# EAGLE library part TYPE_C_CON_24PIN_SM (library vikc-connector)
USB type-C Connector SMD created by Aditya
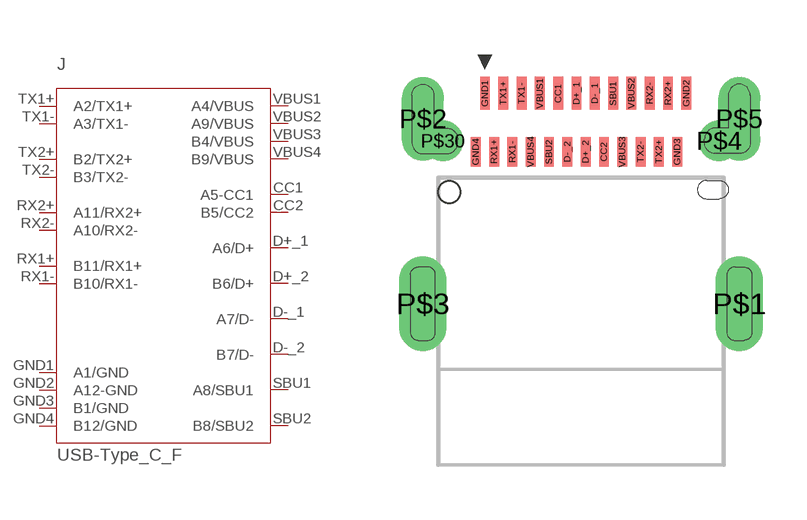
[diagram p13: symbol with the pads of USB-TYPE-C-PTH-PAD; footprint USB-TYPE-C-PTH-PAD]

Designator prefix J

## TYPE_C_CON_24PIN_SM  [USB-TYPE-C-PTH-PAD]
CC1  A5-CC1
CC2  B5/CC2
D+_1  A6/D+
D+_2  B6/D+
D-_1  A7/D-
D-_2  B7/D-
GND1  A1/GND
GND2  A12-GND
GND3  B1/GND
GND4  B12/GND
RX1+  B11/RX1+
RX1-  B10/RX1-
RX2+  A11/RX2+
RX2-  A10/RX2-
SBU1  A8/SBU1
SBU2  B8/SBU2
TX1+  A2/TX1+
TX1-  A3/TX1-
TX2+  B2/TX2+
TX2-  B3/TX2-
VBUS1  A4/VBUS
VBUS2  A9/VBUS
VBUS3  B4/VBUS
VBUS4  B9/VBUS

## Footprint USB-TYPE-C-PTH-PAD (pad centres in mm)
smd 0.27 x 0.9: CC1 -0.625,5.75; D+_1 -0.125,5.75; D-_1 0.375,5.75; GND1 -2.625,5.75; GND2 2.875,5.75; RX2+ 2.375,5.75; RX2- 1.875,5.75; SBU1 0.875,5.75; TX1+ -2.125,5.75; TX1- -1.625,5.75; VBUS1 -1.125,5.75; VBUS2 1.375,5.75
smd 0.27 x 0.8: CC2 0.625,4.15; D+_2 0.125,4.15; D-_2 -0.375,4.15; GND3 2.625,4.15; GND4 -2.875,4.15; RX1+ -2.375,4.15; RX1- -1.875,4.15; SBU2 -0.875,4.15; TX2+ 2.125,4.15; TX2- 1.625,4.15; VBUS3 1.125,4.15; VBUS4 -1.375,4.15
drill 0.6 pad 1.3 long: P$1 4.32,0; P$3 -4.32,0
drill 0.6 pad 1.15 long: P$2 -4.32,5.05; P$5 4.32,5.05
drill 0.6 pad 1.1: P$4 3.77,4.45; P$30 -3.77,4.45
hole 0.6 at -3.6,3.05